# Altium footprint library myPcbLib.PcbLib: 116 footprints (part 1 of 8)
Each footprint in its own frame and in the unit in brackets; x right, y up, seen from the top. Pads: shape width x height; smd on the part's side, far side on the other; paste and mask are expansions set on the pad; w line width, h text height; cw(c..) or ccw(c..) is an arc to the next point about the centre after c.
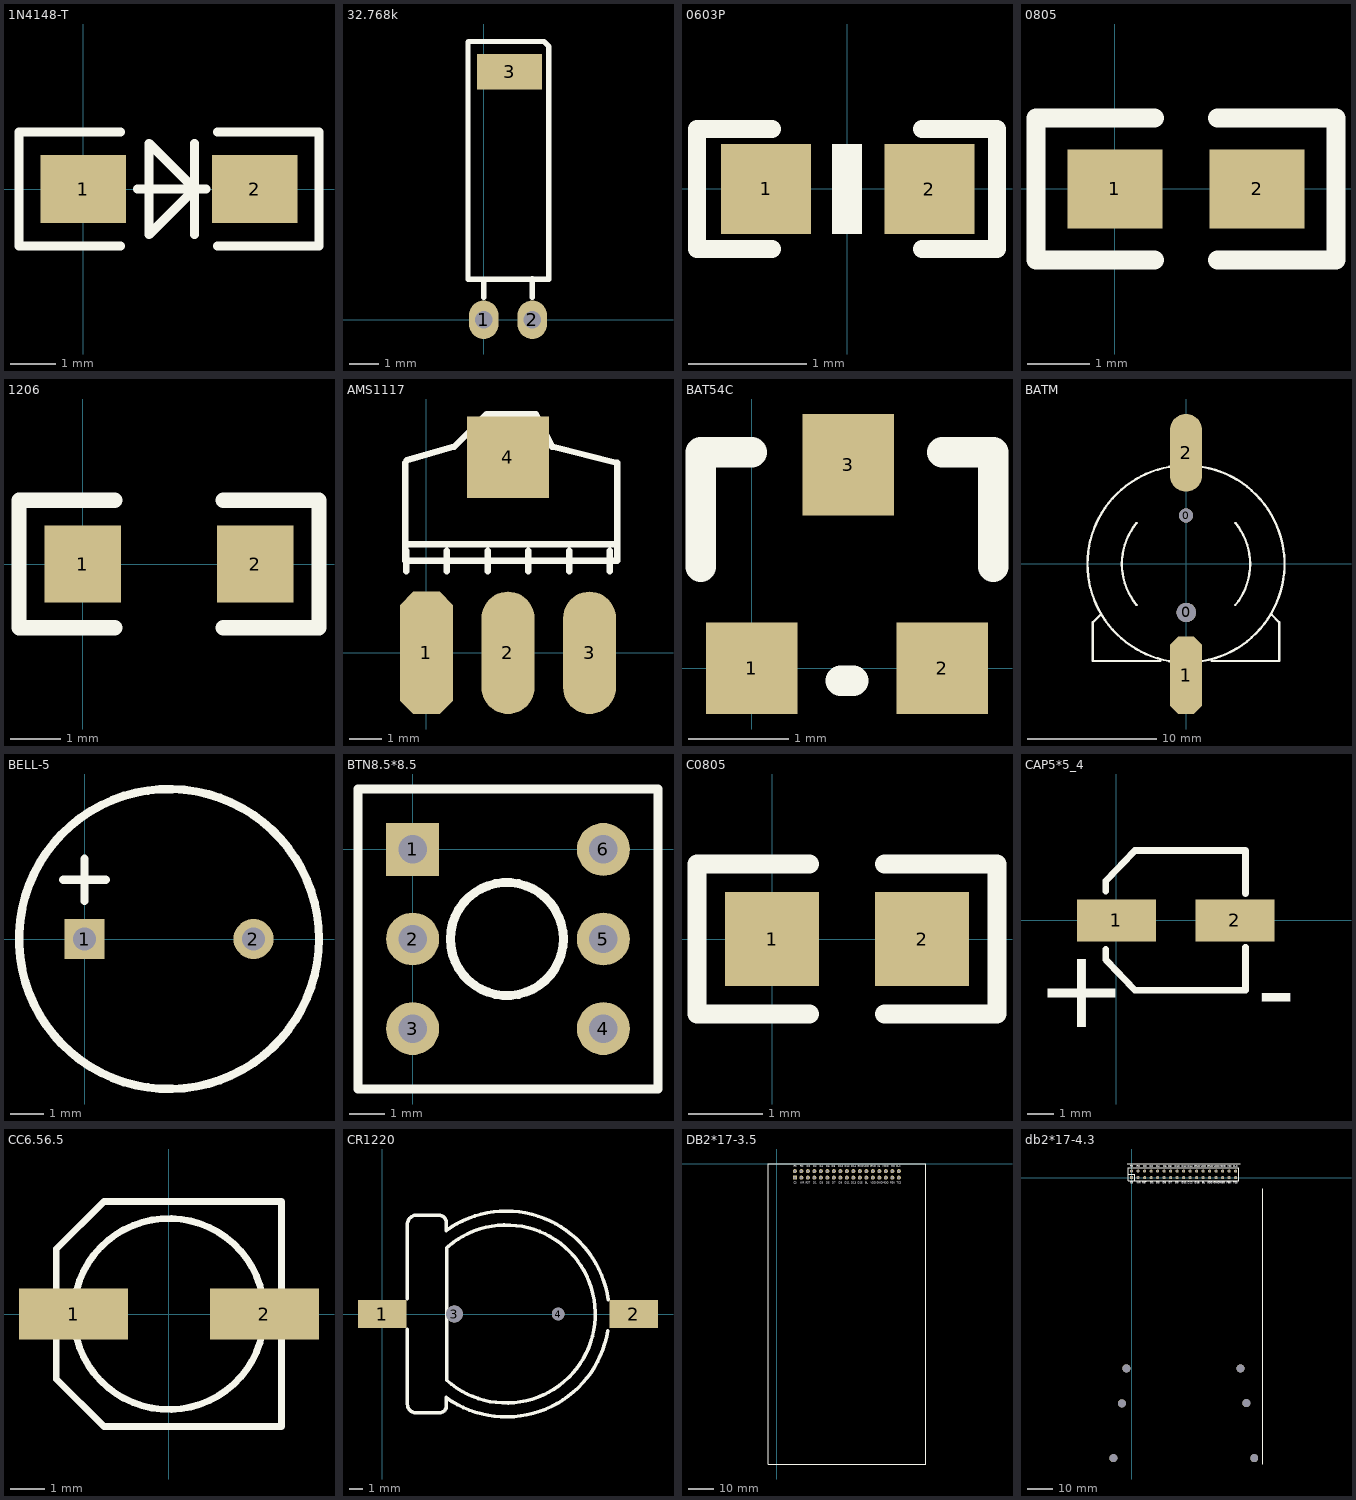
[diagram p0: the footprints below, top view; thin cyan lines are the x and y axes]

## 1N4148-T [mil]
pads (2):
  rect 75x60 smd: 1(0,0) 2(150,0)
Top Overlay:
  lines w7.87: 32.5,-50 -42.5,-50 -56.5,-50 -56.5,50 -42.5,50 32.5,50 ; 117.5,-50 192.5,-50 206.5,-50 206.5,50 ; 117.5,50 192.5,50 205.5,50
  lines w8: 47.5,0 107.5,0 ; 97.5,-40 97.5,40 ; 57.5,-40 97.5,0 57.5,40 57.5,-40

## 32.768k [mm]
height 2.54
pads (3):
  oval 1x1.3 hole 0.6: 1(0,0) 2(1.64,0)
  rect 2.2x1.2 smd: 3(0.875,8.382)
Top Overlay:
  lines w0.178: 0,0.762 0,1.37 ; 1.64,0.762 1.64,1.386 ; -0.53,1.37 -0.53,8.77 -0.53,9.376 -0.508,9.398 2.032,9.398 2.2,9.23 2.2,8.77 2.2,1.37 -0.53,1.37

## 0603P [mil]
pads (2):
  rect 30x30 smd: 1(-27,0) 2(27.5,-0.06)
Top Overlay:
  region: 5.02,-15.06 5.02,14.94 -4.98,14.94 -4.98,-15.06
  lines w6: -25,-20.06 -50,-20.06 -50,19.94 -25,19.94 ; 25,-20.06 50,-20.06 50,19.94 25,19.94

## 0805 [mil]
pads (2):
  rect 60x50 smd: 1(0,-0.06) 2(90,-0.06)
Top Overlay:
  lines w12: 25,-45.06 -50,-45.06 -50,44.94 25,44.94 ; 65,-45.06 140,-45.06 140,44.94 65,44.94

## 1206 [mil]
pads (2):
  rect 60x60 smd: 1(0,0) 2(135,0)
Top Overlay:
  lines w12: 25,-50 -50,-50 -50,50 25,50 ; 110,-50 185,-50 185,50 110,50

## AMS1117 [mil]
pads (4):
  oct 65x150 smd: 1(0.03,-0.06)
  oval 65x150 smd: 2(100.03,-0.06) 3(200.03,-0.06)
  rect 100x100 smd: 4(100.03,239.94)
Top Overlay:
  lines w7.87: -25.97,232.94 -25.97,132.94 ; -24.97,99.94 -24.97,124.94 ; -24.3,236.27 34.03,252.94 74.03,292.94 134.03,292.94 154.03,252.94 234.03,232.94 234.03,112.94 ; 25.03,99.94 25.03,124.94 ; 75.03,99.94 75.03,124.94 ; 125.03,99.94 125.03,124.94 ; 175.03,99.94 175.03,124.94 ; 225.03,99.94 225.03,124.94 ; -25.97,132.94 -25.97,112.94 234.03,112.94 ; -25.97,132.94 234.03,132.94 234.03,112.94

## BAT54C [mil]
height 100
pads (3):
  rect 36x36 smd: 1(0,0) 2(75,0)
  rect 36x40 smd: 3(38,80)
Top Overlay:
  lines w12: -20,40 -20,85 0,85 ; 35,-5 40,-5 ; 75,85 95,85 95,40

## BATM [mm]
pads (4):
  round 1.1 hole 1.1 unplated: 0(0,3.748)
  round 1.5 hole 1.5 unplated: 0(0.025,-3.752)
  oct 2.5x6 smd: 1(0,-8.602)
  oval 2.5x6 smd: 2(0,8.598)
Top Overlay:
  lines w0.178: -6.6,-3.902 -7.2,-4.502 -7.2,-7.502 -2,-7.502 ; -3.815,-3.171 cw(c0,-0.002) -3.812,3.171 ; -0.833,-7.576 cw(c0,-0.002) -7.62,-0.002 cw(c0,-0.002) -0.833,7.573 ; 0.833,-7.576 ccw(c0,-0.002) 0.833,7.573 ; 2,-7.502 7.2,-7.502 7.2,-4.502 6.625,-3.927 ; 3.81,-3.177 ccw(c0,-0.002) 3.812,3.171

## BELL-5 [mm]
pads (2):
  rect 1.2x1.2 hole 0.7: 1(0,0)
  round 1.2 hole 0.7: 2(5.08,0)
Top Overlay:
  circle w0.254: c2.54,0 r4.51
  lines w0.254: -0.635,1.778 0.635,1.778 ; 0,1.143 0,2.413

## BTN8.5*8.5 [mm]
pads (6):
  rect 1.5x1.5 hole 0.8: 1(0,0)
  round 1.5 hole 0.8: 2(0,-2.54) 3(0,-5.08) 4(5.4,-5.08) 5(5.4,-2.54) 6(5.4,0)
Top Overlay:
  circle w0.254: c2.667,-2.54 r1.6
  lines w0.254: -1.55,-6.79 -1.55,1.71 6.95,1.71 6.95,-6.79 -1.55,-6.79

## C0805 [mil]
pads (2):
  rect 50x50 smd: 1(0,0) 2(80,0)
Top Overlay:
  lines w10: 20,-40 -40,-40 -40,40 20,40 ; 60,-40 120,-40 120,40 60,40
3D body "0805 SMD Capacitor.STEP": height 30.79, standoff 0, extent 0.63,-24.21 79.37,25

## CAP5*5_4 [mm]
pads (2):
  rect 3x1.6 smd: 1(0,0) 2(4.5,0)
Top Overlay:
  lines w0.254: -0.4,-1.1 -0.4,-1.5 0.7,-2.65 4.9,-2.65 4.9,-1.016 ; -0.4,1.1 -0.4,1.5 0.7,2.65 4.9,2.65 4.9,1.016
  text "+" at -3.048,-4.064 h3
  text "-" at 5.334,-4.064 h3
3D body "CAP5X5_4.STEP": height 5.41, standoff 0, extent -0.775,-2.675 5.125,2.625

## CC6.56.5 [mm]
pads (2):
  rect 3.2x1.5 smd: 1(-2.794,0) 2(2.8,0)
Top Overlay:
  circle w0.2: c0,0 r2.8
  lines w0.2: -3.302,-1.905 -3.302,1.905 -1.905,3.302 3.302,3.302 3.302,-3.302 -1.905,-3.302 -3.302,-1.905

## CR1220 [mm]
pads (4):
  rect 3.5x2 smd: 1(0,0) 2(18.067,0)
  round 1.2 hole 1.2: 3(5.181,0)
  round 0.9 hole 0.9: 4(12.631,0)
Top Overlay:
  lines w0.254: 1.806,-1.1 1.806,-6.5 ccw(c2.406,-6.5) 2.406,-7.1 4.106,-7.1 ccw(c4.106,-6.6) 4.606,-6.6 4.606,-6 ; 1.806,1.1 1.806,6.4 cw(c2.456,6.45) 2.406,7.1 4.106,7.1 ; 4.006,7.1 cw(c4.056,6.55) 4.606,6.6 4.606,6 ; 4.597,-6.016 ccw(c8.906,0) 16.208,-1.2 ; 4.596,6.015 cw(c8.906,0) 16.236,1.021 ; 4.636,-4.767 ccw(c8.906,0) 4.741,4.859 4.636,4.754 4.636,-4.767

## DB2*17-3.5 [mil]
pads (34):
  rect 62x62 hole 35: 1(275,-210)
  round 62 hole 35: 2(275,-110) 3(375,-210) 4(375,-110) 5(475,-210) 6(475,-110) 7(575,-210) 8(575,-110) 9(675,-210) 10(675,-110) 11(775,-210) 12(775,-110) 13(875,-210) 14(875,-110) 15(975,-210) 16(975,-110) 17(1075,-210) 18(1075,-110) 19(1175,-210) 20(1175,-110) 21(1275,-210) 22(1275,-110) 23(1375,-210) 24(1375,-110) 25(1475,-210) 26(1475,-110) 27(1575,-210) 28(1575,-110) 29(1675,-210) 30(1675,-110) 31(1775,-210) 32(1775,-110) 33(1875,-210) 34(1875,-110)
Top Overlay:
  lines w10: -134.96,-4615 2290.04,-4615 2290.04,0 650,0 -134.96,0 -134.96,-4615
  text "D14" at 1142.13,-48.58 h28
  text "D7" at 850,-300 h28
  text "RS" at 256.3,-48.58 h28
  text "CS" at 255,-300 h28
  text "WR" at 355,-300 h28
  text "RST" at 440,-300 h28
  text "D1" at 560,-300 h28
  text "D2" at 556.5,-48.58 h28
  text "D3" at 655,-300 h28
  text "D4" at 654.92,-48.58 h28
  text "D5" at 755,-300 h28
  text "D6" at 758.27,-48.58 h28
  text "D8" at 841.93,-48.58 h28
  text "D9" at 950,-300 h28
  text "D13" at 1142.13,-304.49 h28
  text "D12" at 1043.7,-48.58 h28
  text "D15" at 1245,-300 h28
  text "VDD" at 1440,-300 h28
  text "V5" at 1540.75,-48.58 h28
  text "GND" at 1437.4,-48.58 h28
  text "VDD" at 1338.98,-48.58 h28
  text "D10" at 940.35,-48.58 h28
  text "D0" at 458.07,-48.58 h28
  text "RD" at 354.72,-48.58 h28
  text "GND" at 1240.55,-48.58 h28
  text "GND" at 1535,-300 h28
  text "D11" at 1045,-300 h28
  text "PEN" at 1740,-300 h28.03
  text "CLK" at 1836.02,-48.58 h28.03
  text "MOSI" at 1629.33,-48.58 h28.03
  text "MO" at 1757.28,-48.58 h28.03
  text "TCS" at 1840,-300 h28.03
  text "MISO" at 1625,-300 h28.03
  text "BL" at 1360,-300 h28
Bottom Overlay:
  lines w6: 225,-160 325,-160 325,-260 ; 225,-260 225,-60 1925,-60 1925,-260 225,-260
  lines w7: 235,-330 1925,-330
  text "CS" at 240,-350 h35
  text "RS" at 245,-275 h35
  text "RD" at 350,-275 h35
  text "WR" at 350,-350 h35
  text "D0" at 450,-275 h35
  text "RST" at 435,-350 h35
  text "D1" at 555,-350 h35
  text "D2" at 550,-275 h35
  text "D3" at 650,-350 h35
  text "D4" at 650,-275 h35
  text "D5" at 755,-350 h35
  text "D6" at 755,-275 h35
  text "D7" at 850,-350 h35
  text "D8" at 850,-275 h35
  text "D9" at 945,-350 h35
  text "D10" at 930,-275 h35
  text "D11" at 1035,-350 h35
  text "D12" at 1035,-275 h35
  text "D13" at 1135,-350 h35
  text "D14" at 1140,-275 h35
  text "D15" at 1240,-350 h35
  text "GND" at 1240,-275 h35
  text "BL" at 1350,-350 h35
  text "VDD" at 1345,-275 h35
  text "VDD" at 1425,-350 h35
  text "GND" at 1450,-275 h35
  text "GND" at 1530,-350 h35
  text "V5" at 1560,-275 h35
  text "MI" at 1655,-350 h35
  text "MO" at 1650,-275 h35
  text "PEN" at 1725,-350 h35
  text "NC" at 1750,-275 h35
  text "TCS" at 1835,-350 h35
  text "CLK" at 1835,-275 h35

## db2*17-4.3 [mm]
pads (40):
  rect 1.2x1.2 hole 0.7: 1(-0.002,0.006)
  round 1.2 hole 0.7: 2(-0.002,2.546) 3(2.538,0.006) 4(2.538,2.546) 5(5.08,0) 6(5.078,2.546) 7(7.62,0) 8(7.62,2.54) 9(10.158,0.006) 10(10.158,2.546) 11(12.698,0.006) 12(12.698,2.546) 13(15.238,0.006) 14(15.238,2.546) 15(17.778,0.006) 16(17.778,2.546) 17(20.318,0.006) 18(20.318,2.546) 19(22.858,0.006) 20(22.858,2.546) 21(25.398,0.006) 22(25.398,2.546) 23(27.938,0.006) 24(27.938,2.546) 25(30.478,0.006) 26(30.478,2.546) 27(33.018,0.006) 28(33.018,2.546) 29(35.558,0.006) 30(35.558,2.546) 31(38.098,0.006) 32(38.098,2.546) 33(40.638,0.006) 34(40.638,2.546)
  round 3.1 hole 3.1: ""(-7.125,-109.596) ""(-3.81,-88.18) ""(-2.037,-74.525) ""(42.54,-74.525) ""(44.82,-88.12) ""(47.925,-109.596)
Top Overlay:
  lines w0.203: -1.27,1.27 1.27,1.27 1.27,-1.23 1.32,-1.28 -1.26,-1.28 -1.27,-1.27 -1.27,3.82 41.91,3.82 41.91,-1.26 ; 1.21,-1.28 41.91,-1.28 ; 41.91,-1.25 41.91,-0.95
  lines w0.254: -1.651,5.334 42.418,5.334 ; 51.192,-111.887 51.192,-4.329
  text "D14" at 22.023,4.106 h0.71
  text "D7" at 14.603,-2.28 h0.71
  text "RS" at -0.477,4.106 h0.71
  text "CS" at -0.51,-2.28 h0.71
  text "WR" at 2.03,-2.28 h0.71
  text "RST" at 4.189,-2.28 h0.71
  text "D1" at 7.237,-2.28 h0.71
  text "D2" at 7.148,4.106 h0.71
  text "D3" at 9.65,-2.28 h0.71
  text "D4" at 9.648,4.106 h0.71
  text "D5" at 12.19,-2.28 h0.71
  text "D6" at 12.273,4.106 h0.71
  text "D8" at 14.398,4.106 h0.71
  text "D9" at 17.143,-2.28 h0.71
  text "D12" at 19.523,4.106 h0.71
  text "D15" at 24.636,-2.28 h0.71
  text "VDD" at 29.589,-2.28 h0.71
  text "VDD" at 32.148,4.106 h0.71
  text "GND" at 29.523,4.106 h0.71
  text "VDD" at 27.023,4.106 h0.71
  text "D10" at 16.898,4.106 h0.71
  text "D0" at 4.648,4.106 h0.71
  text "RD" at 2.023,4.106 h0.71
  text "GND" at 24.523,4.106 h0.71
  text "GND" at 32.002,-2.28 h0.71
  text "D11" at 19.556,-2.28 h0.71
  text "PEN" at 37.209,-2.28 h0.71
  text "CLK" at 39.648,4.106 h0.71
  text "MOSI" at 34.398,4.106 h0.71
  text "MO" at 37.648,4.106 h0.71
  text "TCS" at 39.749,-2.28 h0.71
  text "MISO" at 34.288,-2.28 h0.71
  text "BL" at 27.557,-2.28 h0.71
  text "D14" at 22.025,4.1 h0.71
  text "D7" at 14.605,-2.286 h0.71
  text "RS" at -0.475,4.1 h0.71
  text "CS" at -0.508,-2.286 h0.71
  text "WR" at 2.032,-2.286 h0.71
  text "RST" at 4.191,-2.286 h0.71
  text "D1" at 7.239,-2.286 h0.71
  text "D2" at 7.15,4.1 h0.71
  text "D3" at 9.652,-2.286 h0.71
  text "D4" at 9.65,4.1 h0.71
  text "D5" at 12.192,-2.286 h0.71
  text "D6" at 12.275,4.1 h0.71
  text "D8" at 14.4,4.1 h0.71
  text "D9" at 17.145,-2.286 h0.71
  text "D13" at 22.025,-2.296 h0.71
  text "D12" at 19.525,4.1 h0.71
  text "D15" at 24.638,-2.286 h0.71
  text "VDD" at 29.591,-2.286 h0.71
  text "VDD" at 32.15,4.1 h0.71
  text "GND" at 29.525,4.1 h0.71
  text "VDD" at 27.025,4.1 h0.71
  text "D10" at 16.9,4.1 h0.71
  text "D0" at 4.65,4.1 h0.71
  text "RD" at 2.025,4.1 h0.71
  text "GND" at 24.525,4.1 h0.71
  text "GND" at 32.004,-2.286 h0.71
  text "D11" at 19.558,-2.286 h0.71
  text "PEN" at 37.211,-2.286 h0.71
  text "CLK" at 39.65,4.1 h0.71
  text "MOSI" at 34.4,4.1 h0.71
  text "MO" at 37.65,4.1 h0.71
  text "TCS" at 39.751,-2.286 h0.71
  text "MISO" at 34.29,-2.286 h0.71
  text "BL" at 27.559,-2.286 h0.71